# EAGLE library part RT7258-2 (library RT7258-2)
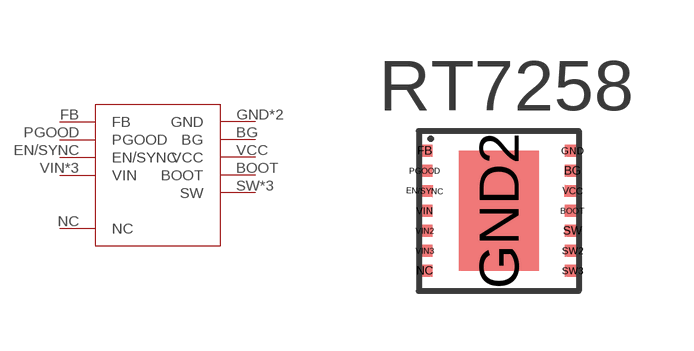
[diagram p0: symbol with the pads of RT7258-2; footprint RT7258-2]

Designator prefix -

## RT7258-2  [RT7258-2]
BG  BG  out
BOOT  BOOT
EN/SYNC  EN/SYNC
FB  FB  in
GND  GND
GND2  GND
NC  NC
PGOOD  PGOOD  out
SW  SW
SW2  SW
SW3  SW
VCC  VCC  in
VIN  VIN  in
VIN2  VIN  in
VIN3  VIN  in

## Footprint RT7258-2 (pad centres in mm)
smd 0.4 x 0.3: BG 1.85,1; BOOT 1.85,0; FB -1.85,1.5; GND 1.85,1.5; NC -1.85,-1.5; PGOOD -1.85,1; SW 1.85,-0.5; SW2 1.85,-1; SW3 1.85,-1.5; VIN -1.85,0; VIN2 -1.85,-0.5; VIN3 -1.85,-1
smd 0.4 x 0.3 rotated 358.2: EN/SYNC -1.85,0.5; VCC 1.85,0.5
smd 2 x 3: GND2 0,0